# EAGLE library part 14-SEGMENT (library uBraids_SE)
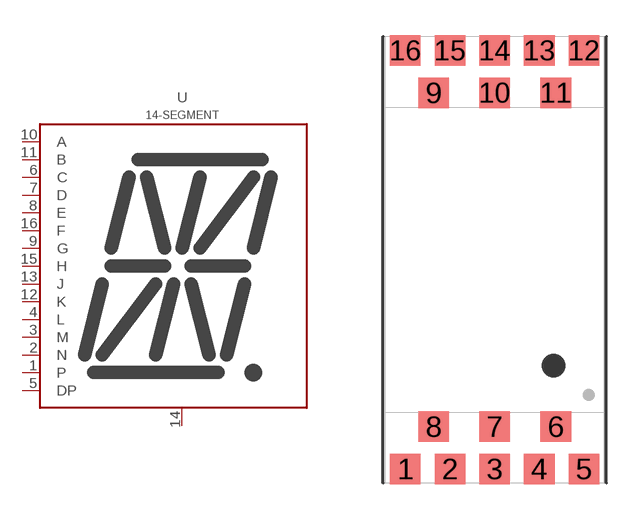
[diagram p0: symbol with the pads of 14-SEGMENT-0.4"-SMD; footprint 14-SEGMENT-0.4"-SMD]

Designator prefix -

## 14-SEGMENT-SMD  [14-SEGMENT-0.4"-SMD]
1  P
2  N
3  M
4  L
5  DP
6  C
7  D
8  E
9  G
10  A
11  B
12  K
13  J
14  CATHODE
15  H
16  F

## Footprint 14-SEGMENT-0.4"-SMD (pad centres in mm)
smd 1.3 x 1.3: 1 -3.8,-8.9; 2 -1.9,-8.9; 3 0,-8.9; 4 1.9,-8.9; 5 3.8,-8.9; 6 2.6,-7.1; 7 0,-7.1; 8 -2.6,-7.1; 9 -2.6,7.1; 10 0,7.1; 11 2.6,7.1; 12 3.8,8.9; 13 1.9,8.9; 14 0,8.9; 15 -1.9,8.9; 16 -3.8,8.9